# EAGLE library part SN74LV4T125 (library rpibout)
SN74LV4T125 Level Translator
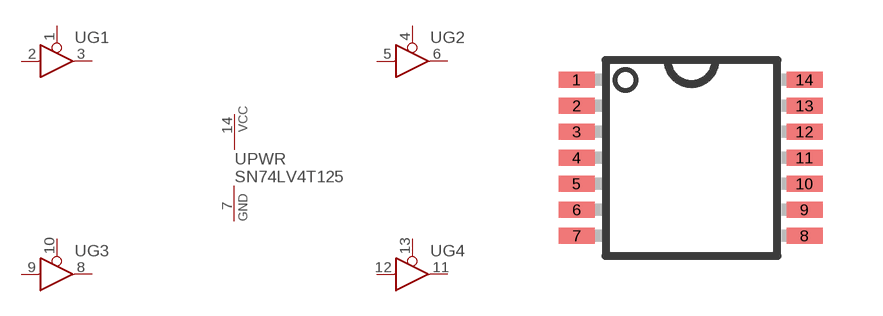
[diagram p8: symbol with the pads of TSSOP14; footprint TSSOP14]

Designator prefix U; gates G1=BUFFER G2=BUFFER G3=BUFFER G4=BUFFER PWR=VCC_GND

## SN74LV4T125  [TSSOP14]
1  G1:OE  in
2  G1:I  in
3  G1:O  hiz
4  G2:OE  in
5  G2:I  in
6  G2:O  hiz
7  PWR:GND  pwr
8  G3:O  hiz
9  G3:I  in
10  G3:OE  in
11  G4:O  hiz
12  G4:I  in
13  G4:OE  in
14  PWR:VCC  pwr

## Footprint TSSOP14 (pad centres in mm)
TSSOP14
smd 0.9 x 0.4: 1 -2.875,1.95; 2 -2.875,1.3; 3 -2.875,0.65; 4 -2.875,0; 5 -2.875,-0.65; 6 -2.875,-1.3; 7 -2.875,-1.95; 8 2.825,-1.95; 9 2.825,-1.3; 10 2.825,-0.65; 11 2.825,0; 12 2.825,0.65; 13 2.825,1.3; 14 2.825,1.95